# Altium footprint library TMS320.PcbLib: 1 footprints
Each footprint in its own frame and in the unit in brackets; x right, y up, seen from the top. Pads: shape width x height; smd on the part's side, far side on the other; paste and mask are expansions set on the pad; w line width, h text height; cw(c..) or ccw(c..) is an arc to the next point about the centre after c.
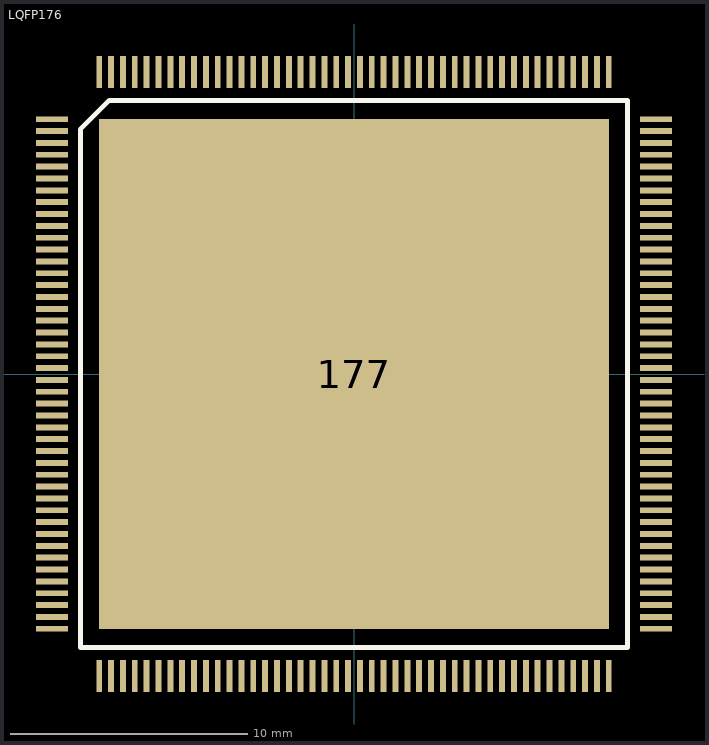
[diagram p0: the footprint, top view; thin cyan lines are the x and y axes]

## LQFP176 [mm] "LQFP176 with PowerPAD."
pads (177):
  rect 1.35x0.25 smd: 1(-12.75,10.75) 2(-12.75,10.25) 3(-12.75,9.75) 4(-12.75,9.25) 5(-12.75,8.75) 6(-12.75,8.25) 7(-12.75,7.75) 8(-12.75,7.25) 9(-12.75,6.75) 10(-12.75,6.25) 11(-12.75,5.75) 12(-12.75,5.25) 13(-12.75,4.75) 14(-12.75,4.25) 15(-12.75,3.75) 16(-12.75,3.25) 17(-12.75,2.75) 18(-12.75,2.25) 19(-12.75,1.75) 20(-12.75,1.25) 21(-12.75,0.75) 22(-12.75,0.25) 23(-12.75,-0.25) 24(-12.75,-0.75) 25(-12.75,-1.25) 26(-12.75,-1.75) 27(-12.75,-2.25) 28(-12.75,-2.75) 29(-12.75,-3.25) 30(-12.75,-3.75) 31(-12.75,-4.25) 32(-12.75,-4.75) 33(-12.75,-5.25) 34(-12.75,-5.75) 35(-12.75,-6.25) 36(-12.75,-6.75) 37(-12.75,-7.25) 38(-12.75,-7.75) 39(-12.75,-8.25) 40(-12.75,-8.75) 41(-12.75,-9.25) 42(-12.75,-9.75) 43(-12.75,-10.25) 44(-12.75,-10.75) 89(12.75,-10.75) 90(12.75,-10.25) 91(12.75,-9.75) 92(12.75,-9.25) 93(12.75,-8.75) 94(12.75,-8.25) 95(12.75,-7.75) 96(12.75,-7.25) 97(12.75,-6.75) 98(12.75,-6.25) 99(12.75,-5.75) 100(12.75,-5.25) 101(12.75,-4.75) 102(12.75,-4.25) 103(12.75,-3.75) 104(12.75,-3.25) 105(12.75,-2.75) 106(12.75,-2.25) 107(12.75,-1.75) 108(12.75,-1.25) 109(12.75,-0.75) 110(12.75,-0.25) 111(12.75,0.25) 112(12.75,0.75) 113(12.75,1.25) 114(12.75,1.75) 115(12.75,2.25) 116(12.75,2.75) 117(12.75,3.25) 118(12.75,3.75) 119(12.75,4.25) 120(12.75,4.75) 121(12.75,5.25) 122(12.75,5.75) 123(12.75,6.25) 124(12.75,6.75) 125(12.75,7.25) 126(12.75,7.75) 127(12.75,8.25) 128(12.75,8.75) 129(12.75,9.25) 130(12.75,9.75) 131(12.75,10.25) 132(12.75,10.75)
  rect 0.25x1.35 smd: 45(-10.75,-12.75) 46(-10.25,-12.75) 47(-9.75,-12.75) 48(-9.25,-12.75) 49(-8.75,-12.75) 50(-8.25,-12.75) 51(-7.75,-12.75) 52(-7.25,-12.75) 53(-6.75,-12.75) 54(-6.25,-12.75) 55(-5.75,-12.75) 56(-5.25,-12.75) 57(-4.75,-12.75) 58(-4.25,-12.75) 59(-3.75,-12.75) 60(-3.25,-12.75) 61(-2.75,-12.75) 62(-2.25,-12.75) 63(-1.75,-12.75) 64(-1.25,-12.75) 65(-0.75,-12.75) 66(-0.25,-12.75) 67(0.25,-12.75) 68(0.75,-12.75) 69(1.25,-12.75) 70(1.75,-12.75) 71(2.25,-12.75) 72(2.75,-12.75) 73(3.25,-12.75) 74(3.75,-12.75) 75(4.25,-12.75) 76(4.75,-12.75) 77(5.25,-12.75) 78(5.75,-12.75) 79(6.25,-12.75) 80(6.75,-12.75) 81(7.25,-12.75) 82(7.75,-12.75) 83(8.25,-12.75) 84(8.75,-12.75) 85(9.25,-12.75) 86(9.75,-12.75) 87(10.25,-12.75) 88(10.75,-12.75) 133(10.75,12.75) 134(10.25,12.75) 135(9.75,12.75) 136(9.25,12.75) 137(8.75,12.75) 138(8.25,12.75) 139(7.75,12.75) 140(7.25,12.75) 141(6.75,12.75) 142(6.25,12.75) 143(5.75,12.75) 144(5.25,12.75) 145(4.75,12.75) 146(4.25,12.75) 147(3.75,12.75) 148(3.25,12.75) 149(2.75,12.75) 150(2.25,12.75) 151(1.75,12.75) 152(1.25,12.75) 153(0.75,12.75) 154(0.25,12.75) 155(-0.25,12.75) 156(-0.75,12.75) 157(-1.25,12.75) 158(-1.75,12.75) 159(-2.25,12.75) 160(-2.75,12.75) 161(-3.25,12.75) 162(-3.75,12.75) 163(-4.25,12.75) 164(-4.75,12.75) 165(-5.25,12.75) 166(-5.75,12.75) 167(-6.25,12.75) 168(-6.75,12.75) 169(-7.25,12.75) 170(-7.75,12.75) 171(-8.25,12.75) 172(-8.75,12.75) 173(-9.25,12.75) 174(-9.75,12.75) 175(-10.25,12.75) 176(-10.75,12.75)
  rect 21.5x21.5 smd: 177(0,0)
Top Overlay:
  lines w0.2: -11.54,-11.54 -11.54,10.33 -10.33,11.54 11.54,11.54 11.54,-11.54 -11.54,-11.54